# Altium schematic symbol library L298N_Motor_Driver.SchLib: 4 symbols
Pins are listed as number, name and electrical type; pins without a type are passive.

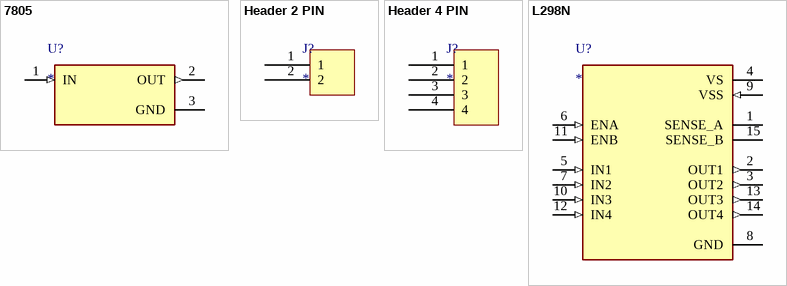
[diagram p0: symbols 7805 to L298N]

## 7805
designator U?
Voltage Reg.
footprint 7805CD2T (Voltage Reg)
pins: 1 IN (in), 2 OUT (out), 3 GND (power)

## Header 2 PIN
designator J?
footprint Header 2 PIN
pins: 1, 2

## Header 4 PIN
designator J?
footprint Header 4 PIN
pins: 1, 2, 3, 4

## L298N
designator U?
Motor Driver
footprint L298N (Motor Driver)
pins: 1 SENSE_A, 2 OUT1 (out), 3 OUT2 (out), 4 VS (power), 5 IN1 (in), 6 ENA (in), 7 IN2 (in), 8 GND (power), 9 VSS (in), 10 IN3 (in), 11 ENB (in), 12 IN4 (in), 13 OUT3 (out), 14 OUT4 (out), 15 SENSE_B